# Altium footprint library HyTechDevices.PCBLIB: 298 footprints (part 6 of 19)
Each footprint in its own frame and in the unit in brackets; x right, y up, seen from the top. Pads: shape width x height; smd on the part's side, far side on the other; paste and mask are expansions set on the pad; w line width, h text height; cw(c..) or ccw(c..) is an arc to the next point about the centre after c.
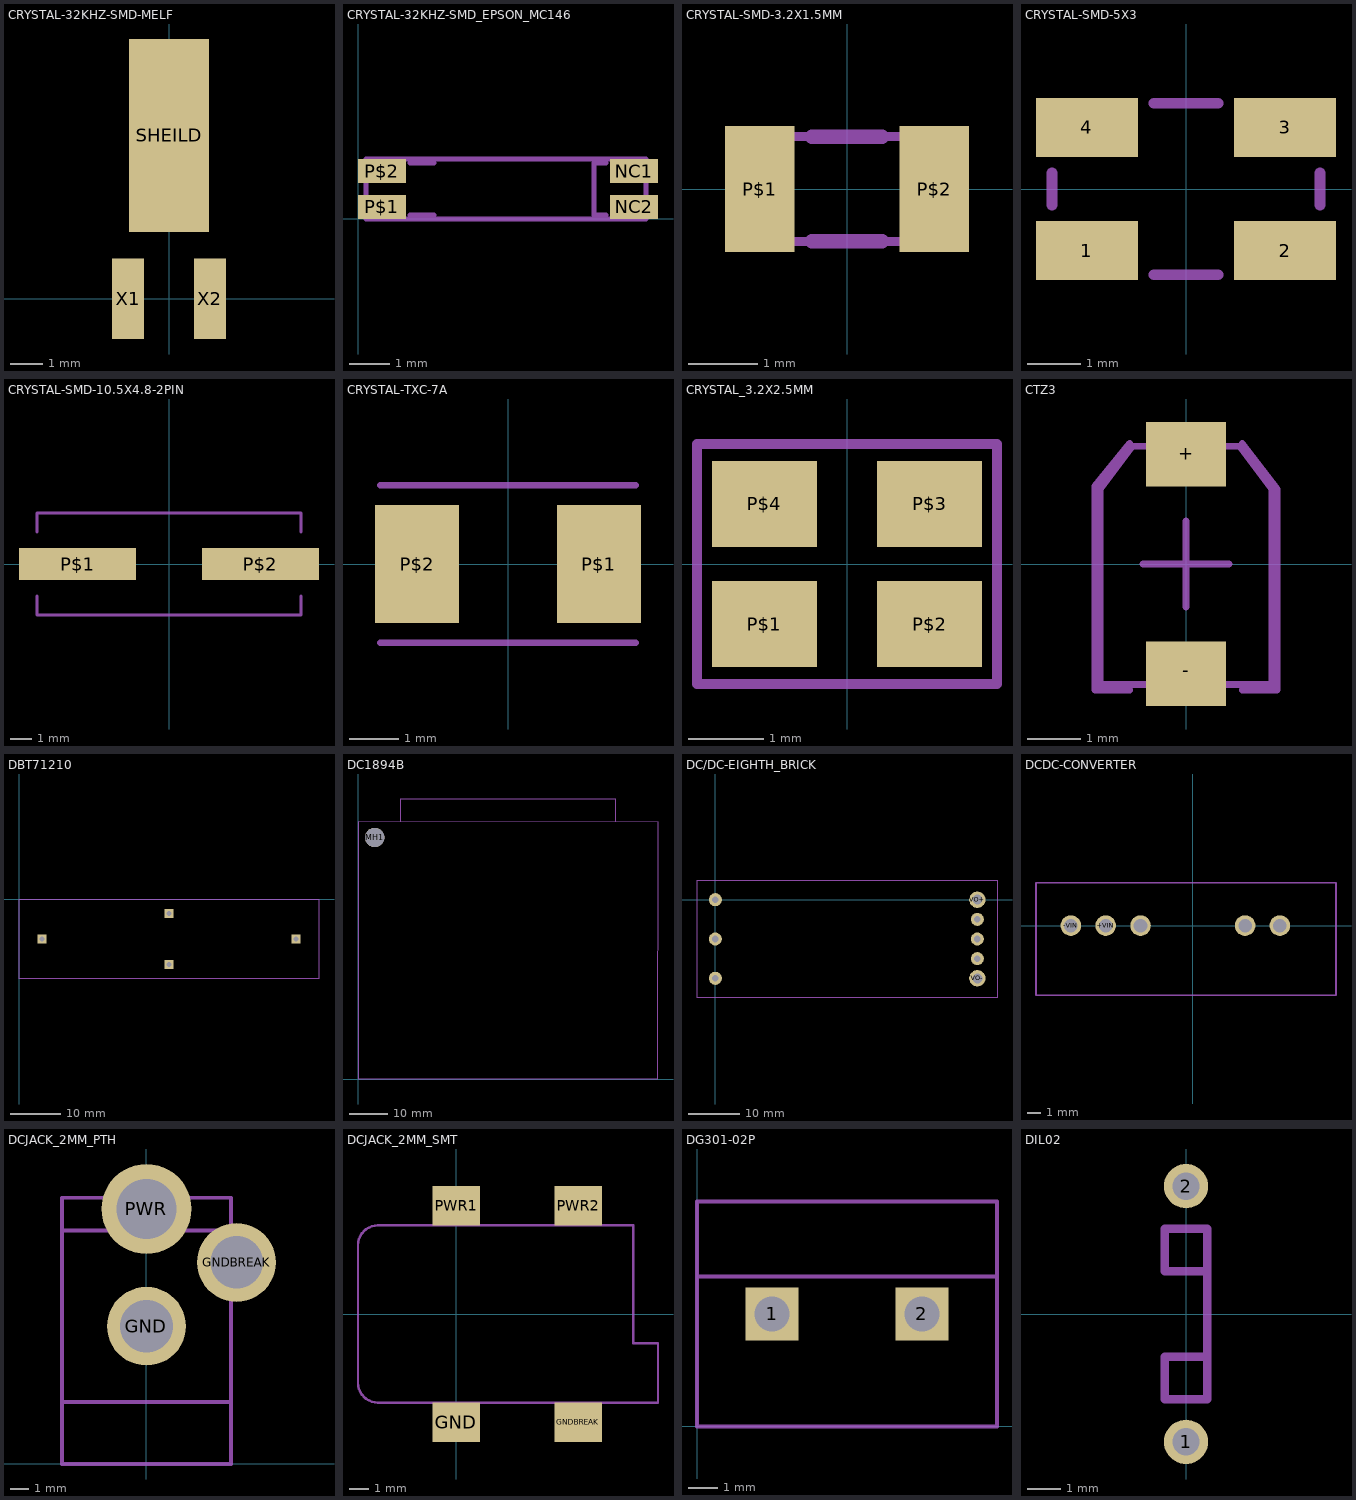
[diagram p5: the footprints below, top view; thin cyan lines are the x and y axes]

## CRYSTAL-32KHZ-SMD-MELF [mm]
pads (3):
  rect 2.5x6 smd: SHEILD(0,5.08)
  rect 1x2.5 smd: X1(-1.27,0) X2(1.27,0)

## CRYSTAL-32KHZ-SMD_EPSON_MC146 [mil]
pads (4):
  rect 47.24x23.62 smd: NC1(271.65,47.24) NC2(271.65,11.81) P$1(23.62,11.81) P$2(23.62,47.24)
Mechanical 3:
  lines w5: 7.87,0 283.46,0 283.46,59.06 7.87,59.06 7.87,0
Mechanical 7:
  lines w5: 51.18,3.94 74.8,3.94 ; 51.18,55.12 74.8,55.12 ; 244.09,3.94 232.28,3.94 232.28,55.12 244.09,55.12

## CRYSTAL-SMD-3.2X1.5MM [mm]
pads (2):
  rect 1x1.8 smd: P$1(-1.25,0) P$2(1.25,0)
Mechanical 3:
  lines w0.127: -1.6,-0.75 1.6,-0.75 1.6,0.75 -1.6,0.75 -1.6,-0.75
Mechanical 7:
  lines w0.203: -0.5,-0.75 0.5,-0.75 ; -0.5,0.75 0.5,0.75

## CRYSTAL-SMD-5X3 [mil]
pads (4):
  rect 74.8x43.31 smd: 1(-72.83,-45.28) 2(72.83,-45.28) 3(72.83,45.28) 4(-72.83,45.28)
Mechanical 7:
  lines w8: -98.43,-11.81 -98.43,11.81 ; -23.62,-62.99 23.62,-62.99 ; -23.62,62.99 23.62,62.99 ; 98.43,-11.81 98.43,11.81

## CRYSTAL-SMD-10.5X4.8-2PIN [mil]
pads (2):
  rect 216.54x59.06 smd: P$1(-169.29,0) P$2(169.29,0)
Mechanical 7:
  lines w5: -244.09,-59.06 -244.09,-94.49 244.09,-94.49 244.09,-59.06 ; -244.09,59.06 -244.09,94.49 244.09,94.49 244.09,59.06

## CRYSTAL-TXC-7A [mil]
pads (2):
  rect 66.93x94.49 smd: P$1(72.83,0) P$2(-72.83,0)
Mechanical 7:
  lines w5: -102.36,-62.99 102.36,-62.99 ; -102.36,62.99 102.36,62.99

## CRYSTAL_3.2X2.5MM [mil]
pads (4):
  rect 55.12x45.28 smd: P$1(-43.31,-31.5) P$2(43.31,-31.5) P$3(43.31,31.5) P$4(-43.31,31.5)
Mechanical 7:
  lines w5: -78.74,-62.99 78.74,-62.99 78.74,62.99 -78.74,62.99 -78.74,-62.99

## CTZ3 [mil]
pads (2):
  rect 59.06x47.24 smd: +(0,80.71) -(0,-80.71)
Mechanical 3:
  lines w5: -31.5,0 31.5,0 ; -19.69,0 19.69,0 ; 0,-31.5 0,31.5 ; -62.99,-88.58 -62.99,55.12 -39.37,86.61 39.37,86.61 62.99,55.12 62.99,-88.58 -62.99,-88.58
Mechanical 7:
  lines w5: -41.34,-92.52 -66.93,-92.52 -66.93,57.09 -41.34,88.58 ; 41.34,-92.52 66.93,-92.52 66.93,55.12 41.34,88.58

## DBT71210 [mil]
pads (4):
  rect 70x70 / inner round 64.67 / far side rect 70x70 hole 39.37: COIL+(1181.1,-511.81) COIL-(1181.1,-110.24) CONTACT1(2181.1,-311.02) CONTACT2(181.1,-311.02)
Mechanical 7:
  lines w6: 0,-622.05 2362.2,-622.05 2362.2,0 0,0 0,-622.05
  text "DBT71210" at 984.25,-393.7 h86.8

## DC1894B [mil]
pads (1):
  round 197 hole 197 unplated: MH1(170,2460)
Mechanical 7:
  lines w5: 433,2618 433,2854 2618,2854 2618,2618 ; 0,0 3051,0 3052,2616 0,2619 0,0
  text "Linear DC1894B" at 500,1450 h310

## DC/DC-EIGHTH_BRICK [mil]
pads (8):
  round 100 hole 50: ON/OFF(0,-300) SENSE+(2000,-150) SENSE-(2000,-450) TRIM(2000,-300) VI+(0,0) VI-(0,-600)
  round 125 hole 76: VO+(2000,0) VO-(2000,-600)
Mechanical 7:
  lines w5: -140,-750 2150,-750 2150,150 -140,150 -140,-750
  text "+Vin" at 150,-25 h77.5
  text "+Vout" at 1700,-25 h77.5
  text "-Vin" at 150,-625 h77.5
  text "-Vout" at 1700,-625 h77.5
  text "+Sense" at 1700,-175 h77.5
  text "-Sense" at 1700,-475 h77.5
  text "Trim" at 1700,-325 h77.5
  text "On/Off" at 150,-325 h77.5

## DCDC-CONVERTER [mil]
pads (5):
  round 59 hole 39: +VIN(-250,0) +VOUT(150,0) -VIN(-350,0) -VOUT(250,0) CONTROL(-150,0)
Mechanical 7:
  lines w5: -450,-200 411,-200 411,123 -450,123 -450,-200

## DCJACK_2MM_PTH [mm]
pads (3):
  round 4.2 hole 2.8: GND(0,7.35) GNDBREAK(4.8,10.75)
  round 4.8 hole 3.2: PWR(0,13.6)
Mechanical 3:
  lines w0.203: 2.4,14.2 2.65,14.2 ; 4.4,12.45 -4.5,12.45 ; 4.5,8.4 4.5,8.35 ; -4.5,3.3 -4.5,0 4.5,0 4.5,3.3 ; -4.5,3.3 4.5,3.3 ; -4.5,3.3 -4.5,12.45 ; -4.5,12.45 -4.5,14.2 2.65,14.2 ; 2.65,14.2 4.5,14.2 4.5,8.35 ; 4.5,3.3 4.5,8.35
  text "DC 2.0/2.1" at -3.302,1.27 h1.26
Mechanical 7:
  lines w0.203: -2.6,14.2 -4.5,14.2 -4.5,3.3 4.5,3.3 4.5,8.4 ; 2.4,14.2 4.5,14.2 4.5,13.1

## DCJACK_2MM_SMT [mm]
pads (4):
  rect 2.4x2 smd: GND(0,-5.5) GNDBREAK(6.2,-5.5) PWR1(0,5.5) PWR2(6.2,5.5)
Mechanical 3:
  lines w0.127: -5,-3.5 -5,3.5 cw(c-4,3.5) -4,4.5 9,4.5 9,-1.492 10.254,-1.492 10.254,-4.5 -4,-4.5 cw(c-4,-3.5) -5,-3.5
Mechanical 7:
  lines w0.127: -1.684,-4.5 -4,-4.5 cw(c-4,-3.5) -5,-3.5 -5,3.5 cw(c-4,3.5) -4,4.5 -1.668,4.5 ; 1.588,-4.5 4.666,-4.5 ; 1.588,4.5 4.682,4.5 ; 7.938,-4.5 10.254,-4.5 10.254,-1.492 9,-1.492 9,4.5 7.938,4.5
  text "+" at 0.762,2.794 h2.2
  text "GND" at -1.016,-3.81 h1.26

## DG301-02P [mil]
pads (2):
  rect 70.86x70.86 / inner round 65.47 / far side rect 70.86x70.86 hole 47.24: 1(100,150) 2(300,150)
Mechanical 7:
  lines w5: 0,200 0,300 400,300 400,200 ; 0,200 0,0 400,0 400,200 ; 0,200 400,200

## DIL02 [mil]
pads (2):
  round 52 hole 32: 1(0,-150) 2(0,150)
Mechanical 7:
  lines w10: 25,-50 25,-100 -25,-100 -25,-50 25,-50 ; 25,-50 25,50 ; 25,50 -25,50 -25,100 25,100 25,50